# Altium footprint library TeknoFest.PcbLib: 43 footprints (part 1 of 3)
Each footprint in its own frame and in the unit in brackets; x right, y up, seen from the top. Pads: shape width x height; smd on the part's side, far side on the other; paste and mask are expansions set on the pad; w line width, h text height; cw(c..) or ccw(c..) is an arc to the next point about the centre after c.
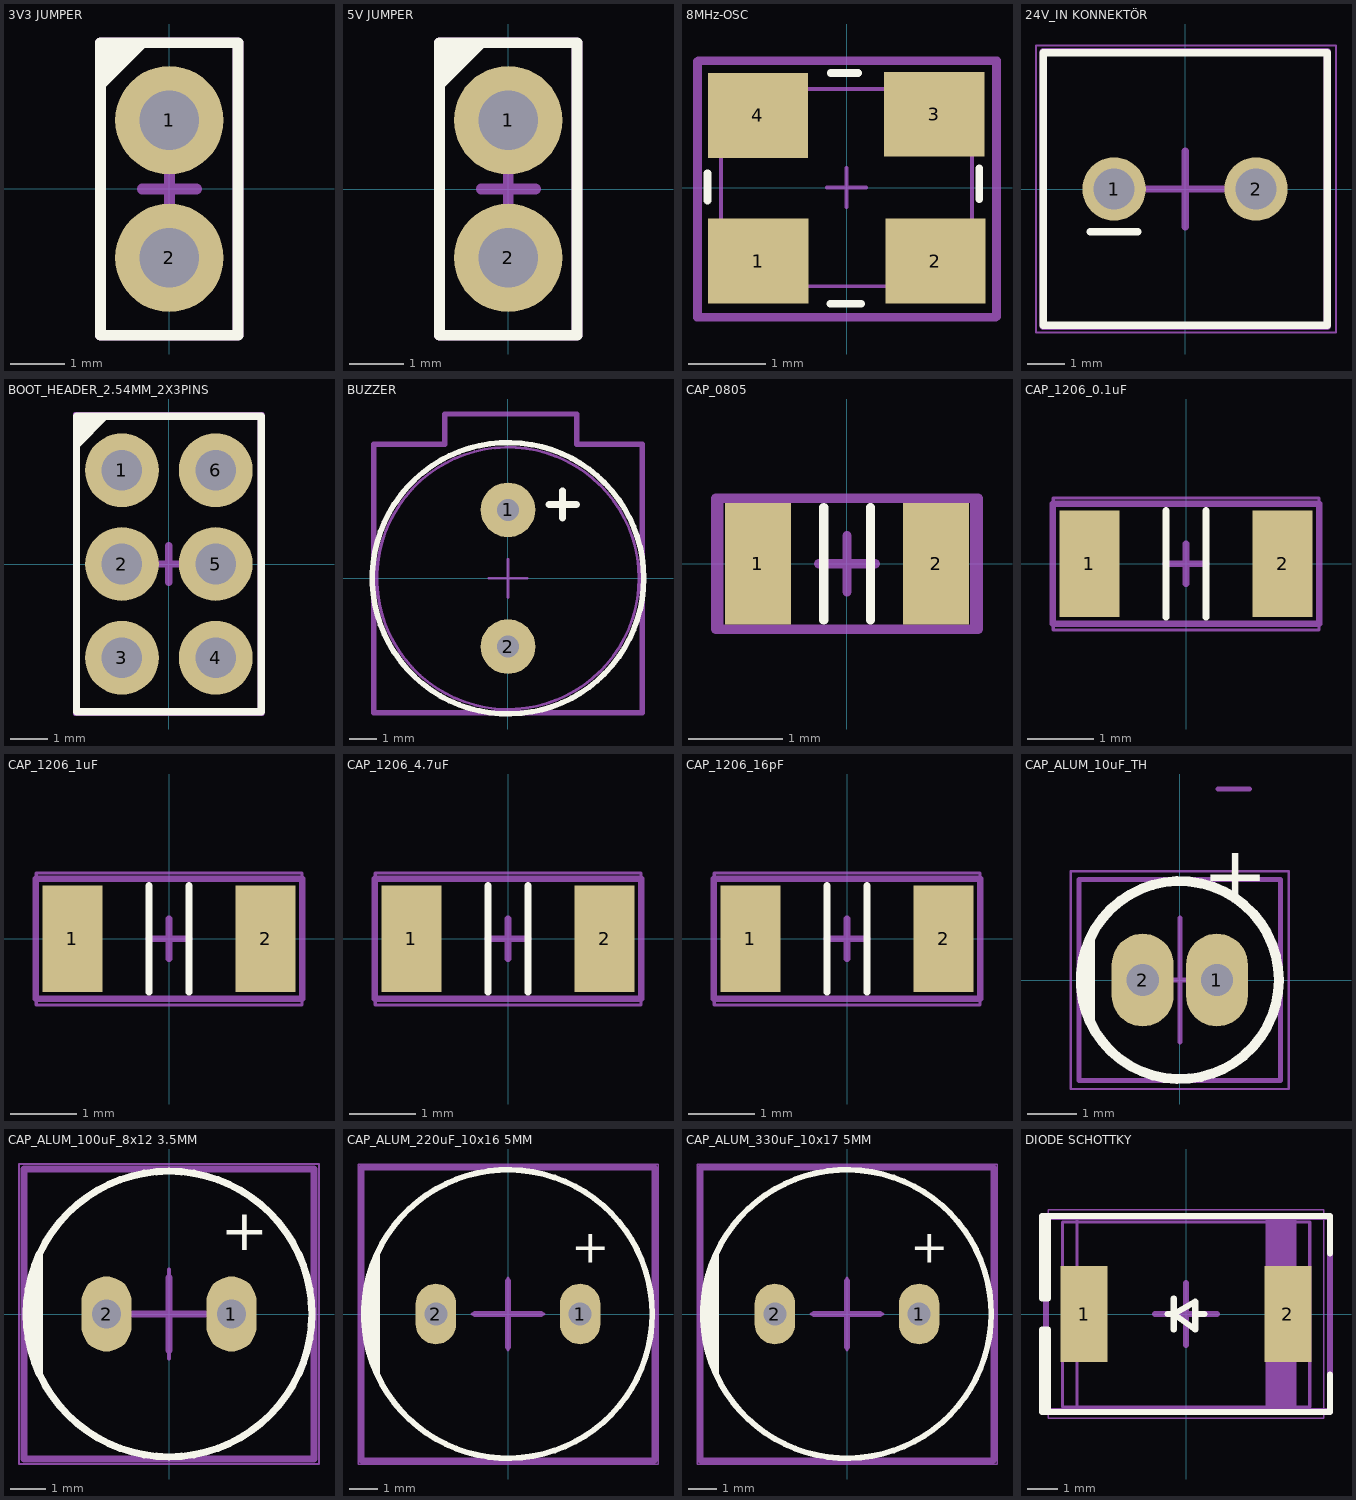
[diagram p0: the footprints below, top view; thin cyan lines are the x and y axes]

## 3V3 JUMPER [mm]
pads (2):
  round 2 hole 1.1: 1(0,1.27) 2(0,-1.27)
Top Overlay:
  region: -1.23,2.73 -1.23,1.83 -0.33,2.73
  lines w0.2: -1.27,-2.7 -1.27,2.7 1.27,2.7 1.27,-2.7 -1.27,-2.7
Top 3D Body:
  lines w0.05: -1.278,-2.769 -1.278,2.769 1.278,2.769 1.278,-2.769 -1.278,-2.769
Top Component Center:
  lines w0.2: -0.5,0 0.5,0 ; 0,-0.5 0,0.5 ; -1.27,-2.7 1.27,-2.7 1.27,2.7 -1.27,2.7 -1.27,-2.7
Top  Designator:
  lines w0.1: -1.29,-2.723 -1.29,2.709 1.27,2.709 1.27,-2.723 -1.29,-2.723
  text ".Designator" at -0.485,-0.025 h1
3D body "M20-7820242.step": height 8.5, standoff -3, extent -1.25,-2.74 1.25,2.74

## 5V JUMPER [mm]
pads (2):
  round 2 hole 1.1: 1(0,1.27) 2(0,-1.27)
Top Overlay:
  region: -1.23,2.73 -1.23,1.83 -0.33,2.73
  lines w0.2: -1.27,-2.7 -1.27,2.7 1.27,2.7 1.27,-2.7 -1.27,-2.7
Top 3D Body:
  lines w0.05: -1.28,-2.768 1.28,-2.768 1.28,2.77 -1.28,2.77 -1.28,-2.768
Top Component Center:
  lines w0.2: -0.5,0 0.5,0 ; 0,-0.5 0,0.5 ; -1.27,-2.7 1.27,-2.7 1.27,2.7 -1.27,2.7 -1.27,-2.7
Top  Designator:
  lines w0.1: -1.29,-2.723 1.27,-2.723 1.27,2.709 -1.29,2.709 -1.29,-2.723
  text ".Designator" at -0.485,-0.025 h1
3D body "M20-7820242.step": height 8.5, standoff -3, extent -1.25,-2.74 1.25,2.74

## 8MHz-OSC [mm]
pads (4):
  rect 1.3x1.1 smd mask+0.05: 1(-1.148,-0.954) 2(1.152,-0.954) 3(1.137,0.954) 4(-1.152,0.937)
Top Overlay:
  circle w0.254: c-1.548,-1.232 r0.1
  lines w0.1: -1.805,-0.166 -1.805,0.188 ; -0.212,-1.509 0.188,-1.509 ; -0.207,1.487 0.147,1.487 ; 1.723,-0.147 1.723,0.253
Top 3D Body:
  lines w0.05: -1.63,-1.28 -1.63,1.28 1.629,1.28 1.629,-1.28 -1.63,-1.28
Top Component Center:
  lines w0.05: -0.254,0 0.254,0 ; 0,-0.254 0,0.254
  lines w0.1: -1.943,-1.684 -1.943,1.639 1.937,1.639 1.937,-1.684 -1.943,-1.684
Top  Designator:
  lines w0.1: -1.928,-1.675 1.951,-1.675 1.951,1.649 -1.928,1.649 -1.928,-1.675
  text ".Designator" at -0.612,-0.218 h0.8
3D body "ASE3.STEP": height 1.22, standoff -0.03, extent -1.6,-1.25 1.6,1.25

## 24V_IN KONNEKTÖR [mm]
pads (2):
  round 1.7 hole 1.1: 1(-1.905,0) 2(1.905,0)
Top Overlay:
  lines w0.2: -2.54,-1.143 -1.27,-1.143 ; -3.81,-3.65 3.81,-3.65 3.81,3.65 -3.81,3.65 -3.81,-3.65
Top 3D Body:
  lines w0.05: -3.838,-3.677 3.835,-3.677 3.835,3.678 -3.838,3.678 -3.838,-3.677
Top Component Center:
  lines w0.2: -1.016,0 0,0 ; 0,-1.016 0,0 ; 0,1.016 0,0 ; 1.016,0 0,0 ; -3.81,-3.683 3.81,-3.683 3.81,3.683 -3.81,3.683 -3.81,-3.683
Top  Designator:
  lines w0.1: -3.81,-3.683 3.81,-3.683 3.81,3.683 -3.81,3.683 -3.81,-3.683
  text ".Designator" at -0.889,0 h1.52
Mechanical 15:
  lines w0.05: -4,-3.85 4.05,-3.85 4.05,3.85 -4,3.85 -4,-3.85
3D body "Phoenix Contact - 1727010 v11.step": height 8.5, standoff -3.5, extent -3.81,-3.65 3.81,3.65

## BOOT_HEADER_2.54MM_2X3PINS [mm] "2.54mm DIL PC TAIL PIN HEADER ASSEMBLY"
height 5
pads (6):
  round 2 hole 1.1: 1(-1.27,2.54) 2(-1.27,0) 3(-1.27,-2.54) 4(1.27,-2.54) 5(1.27,0) 6(1.27,2.54)
Top Overlay:
  region: -2.5,4 -2.5,3.1 -1.6,4
  lines w0.2: -2.5,-4 -2.5,4 2.5,4 2.5,-4 -2.5,-4
Top 3D Body:
  lines w0.05: -2.54,-4.037 -2.54,4.039 -2.412,4.039 2.55,4.039 2.55,-4.037 -2.54,-4.037
Top Component Center:
  lines w0.2: -0.5,0 0.5,0 ; 0,-0.5 0,0.5 ; -2.5,-4 -2.5,4 2.5,4 2.5,-4 -2.5,-4
Top  Designator:
  lines w0.1: -2.54,-4.064 -2.54,4.064 2.54,4.064 2.54,-4.064 -2.54,-4.064
  text ".Designator" at -1.143,-0.254 h1.52
3D body "M20-7830342.step": height 8.5, standoff -3, extent -2.52,-4.01 2.52,4.01

## BUZZER [mm]
pads (2):
  round 2 hole 0.8 mask+0.05: 1(0,2.5) 2(0,-2.5)
Top Overlay:
  circle w0.2: c0,0 r4.966
  lines w0.25: 1.5,2.7 2.5,2.7 ; 1.991,2.2 1.991,3.2
Top 3D Body:
  lines w0.2: -4.914,-4.915 -4.914,4.908 -2.313,4.908 -2.313,6.009 2.507,6.009 2.507,4.906 4.905,4.906 4.905,-4.915 -4.914,-4.915
Top Component Center:
  circle w0.1: c0,0 r4.793
  lines w0.1: -0.7,0 0.7,0 ; 0,-0.7 0,0.7
Top  Designator:
  circle w0.1: c0,0 r4.793
  text ".Designator" at -1.546,-0.438 h1.52
3D body: height 5.2, standoff 5.15, extent -2.2,1.3 2.4,5.9
3D body: height 5.2, standoff 5.15, extent -4.363,-4.291 4.237,4.309
3D body: height 5.1, standoff 0.1, extent -4.8,-4.8 4.8,4.8

## CAP_0805 [mm]
pads (2):
  rect 0.7x1.3 smd mask+0.05: 1(-0.95,0) 2(0.95,0)
Top Overlay:
  lines w0.1: -0.25,-0.6 -0.25,0.6 ; 0.25,-0.6 0.25,0.6
Top 3D Body:
  lines w0.05: -1.34,-0.718 -1.34,0.711 1.338,0.711 1.338,-0.718 -1.34,-0.718
Top Component Center:
  lines w0.1: -0.3,0 0.3,0 ; 0,-0.3 0,0.3 ; -1.4,-0.7 -1.4,0.7 1.4,0.7 1.4,-0.7 -1.4,-0.7
Top  Designator:
  lines w0.1: -1.4,-0.7 -1.4,0.7 1.4,0.7 1.4,-0.7 -1.4,-0.7
  text "'.Designator'" at -1.25,-0.317 h0.7
3D body "CAPC0805.STEP": height 0.9, standoff 0, extent -1.301,-0.678 1.301,0.678

## CAP_1206_0.1uF [mm]
pads (2):
  rect 0.9x1.6 smd mask+0.05: 1(-1.45,0) 2(1.45,0)
Top Overlay:
  lines w0.1: -0.3,-0.8 -0.3,0.8 ; 0.3,-0.8 0.3,0.8
Top 3D Body:
  lines w0.05: -1.991,-0.994 -1.991,0.987 1.996,0.987 1.996,-0.994 -1.991,-0.994
Top Component Center:
  lines w0.1: -0.3,0 0.3,0 ; 0,-0.3 0,0.3 ; -2,-0.9 2,-0.9 2,0.9 -2,0.9 -2,-0.9
Top  Designator:
  lines w0.1: -2,-0.9 2,-0.9 2,0.9 -2,0.9 -2,-0.9
  text "'.Designator'" at -1.25,-0.317 h0.7
3D body "CAPC1206.STEP": height 1.3, standoff -0.01, extent -1.975,-0.976 1.975,0.976

## CAP_1206_1uF [mm]
pads (2):
  rect 0.9x1.6 smd mask+0.05: 1(-1.45,0) 2(1.45,0)
Top Overlay:
  lines w0.1: -0.3,-0.8 -0.3,0.8 ; 0.3,-0.8 0.3,0.8
Top 3D Body:
  lines w0.05: -1.991,-0.994 -1.991,0.987 1.996,0.987 1.996,-0.994 -1.991,-0.994
Top Component Center:
  lines w0.1: -0.3,0 0.3,0 ; 0,-0.3 0,0.3 ; -2,-0.9 2,-0.9 2,0.9 -2,0.9 -2,-0.9
Top  Designator:
  lines w0.1: -2,-0.9 2,-0.9 2,0.9 -2,0.9 -2,-0.9
  text "'.Designator'" at -1.25,-0.317 h0.7
3D body "CAPC1206.STEP": height 1.3, standoff -0.01, extent -1.975,-0.976 1.975,0.976

## CAP_1206_4.7uF [mm]
pads (2):
  rect 0.9x1.6 smd mask+0.05: 1(-1.45,0) 2(1.45,0)
Top Overlay:
  lines w0.1: -0.3,-0.8 -0.3,0.8 ; 0.3,-0.8 0.3,0.8
Top 3D Body:
  lines w0.05: -1.991,-0.994 -1.991,0.987 1.996,0.987 1.996,-0.994 -1.991,-0.994
Top Component Center:
  lines w0.1: -0.3,0 0.3,0 ; 0,-0.3 0,0.3 ; -2,-0.9 2,-0.9 2,0.9 -2,0.9 -2,-0.9
Top  Designator:
  lines w0.1: -2,-0.9 2,-0.9 2,0.9 -2,0.9 -2,-0.9
  text "'.Designator'" at -1.25,-0.317 h0.7
3D body "CAPC1206.STEP": height 1.3, standoff -0.01, extent -1.975,-0.976 1.975,0.976

## CAP_1206_16pF [mm]
pads (2):
  rect 0.9x1.6 smd mask+0.05: 1(-1.45,0) 2(1.45,0)
Top Overlay:
  lines w0.1: -0.3,-0.8 -0.3,0.8 ; 0.3,-0.8 0.3,0.8
Top 3D Body:
  lines w0.05: -1.991,-0.994 1.996,-0.994 1.996,0.987 -1.991,0.987 -1.991,-0.994
Top Component Center:
  lines w0.1: -0.3,0 0.3,0 ; 0,-0.3 0,0.3 ; -2,-0.9 -2,0.9 2,0.9 2,-0.9 -2,-0.9
Top  Designator:
  lines w0.1: -2,-0.9 -2,0.9 2,0.9 2,-0.9 -2,-0.9
  text "'.Designator'" at -1.25,-0.317 h0.7
3D body "CAPC1206.STEP": height 1.3, standoff -0.01, extent -1.975,-0.976 1.975,0.976

## CAP_ALUM_10uF_TH [mm]
pads (2):
  oval 1.25x1.875 hole 0.65: 1(0.75,0) 2(-0.75,0)
Top Overlay:
  circle w0.2: c0,0 r2
  region: -1.813,-0.845 -1.905,-0.647 -2,-0.219 -2,0.219 -1.905,0.647 -1.813,0.845
  lines w0.2: -1.813,-0.845 cw(c0,0) -1.813,0.845 -1.813,-0.845
  text "+" at 0.45,1.175 h2
Top 3D Body:
  lines w0.05: -2.032,-2.032 2.032,-2.032 2.032,2.032 -2.032,2.032 -2.032,-2.032
Top Component Center:
  lines w0.1: -0.635,0 0,0 ; 0,-0.635 0,0 ; 0,0.635 0,0 ; 0.635,0 0,0 ; 0.771,3.86 1.406,3.86 ; -2.032,-2.032 -2.032,2.032 2.032,2.032 2.032,-2.032 -2.032,-2.032
Top  Designator:
  lines w0.1: -2.032,-2.032 -2.032,2.032 2.032,2.032 2.032,-2.032 -2.032,-2.032
  text ".Designator" at -1.27,-0.381 h1.52
Mechanical 13:
  circle w0.1: c0,0 r2
  circle w0.1: c0,0 r2
  lines w0.1: -1.813,-0.845 -1.813,0.845 -1.813,-0.845
Mechanical 15:
  lines w0.05: -2.2,-2.2 2.2,-2.2 ; -2.2,-2.2 -2.2,2.2 ; -2.2,-2.2 2.2,-2.2 ; -2.2,-2.2 -2.2,2.2 ; -2.2,2.2 2.2,2.2 ; -2.2,2.2 2.2,2.2 ; 2.2,-2.2 2.2,2.2 ; 2.2,-2.2 2.2,2.2
  lines w0.1: 0,0 1.25,0 0,0 ; 0,0 0,-1.25 0,0 ; 0,0 -1.25,0 0,0 ; 0,0 0,1.25 0,0
3D body "Cap TH D4.00mm H7.00mm L1.50mm.step": height 7, standoff -2.5, extent -2.009,-1.997 1.991,1.997

## CAP_ALUM_100uF_8x12 3.5MM [mm] "PKRH-063V101MF120-T/A3.5 - CAP.EL.100UF 63V 8x12 3.5MM 105C 5000h TB"
pads (2):
  oval 1.4x2.1 hole 0.8: 1(1.75,0) 2(-1.75,0)
Top Overlay:
  circle w0.2: c0,0 r4
  region: -3.625,-1.69 -3.718,-1.493 -3.858,-1.079 -3.952,-0.653 -4,-0.218 -4,0.218 -3.952,0.653 -3.858,1.079 -3.718,1.493 -3.625,1.69
  lines w0.2: -3.625,-1.69 cw(c0,0) -3.625,1.69 -3.625,-1.69
  text "+" at 1.45,1.4 h2
Top 3D Body:
  lines w0.1: -4.07,-4.064 -4.07,4.069 4.064,4.069 4.064,-4.064 -4.07,-4.064
Top Component Center:
  lines w0.2: -1.016,0 0,0 ; 0,-1.016 0,0 ; 0,1.016 0,0 ; 1.016,0 0,0 ; -4.064,-4.064 -4.064,4.064 4.064,4.064 4.064,-4.064 -4.064,-4.064
Top  Designator:
  lines w0.1: -4.064,-4.064 4.064,-4.064 4.064,4.064 -4.064,4.064 -4.064,-4.064
  text ".Designator" at -0.381,0.127 h1.52
Mechanical 13:
  circle w0.1: c0,0 r4
  lines w0.1: -3.625,-1.69 -3.625,1.69
Mechanical 15:
  lines w0.05: -4.2,-4.2 -4.2,4.2 4.2,4.2 4.2,-4.2 -4.2,-4.2
  lines w0.1: -1.25,0 0,0 ; 0,-1.25 0,0 ; 0,1.25 0,0 ; 1.25,0 0,0
3D body "CAP TH ALPOLY D8.00mm S3.50mm H12.00mm.step": height 12, standoff -2.5, extent -4.008,-4 4,4

## CAP_ALUM_220uF_10x16 5MM [mm]
pads (2):
  oval 1.4x2.1 hole 0.8: 1(2.5,0) 2(-2.5,0)
Top Overlay:
  circle w0.2: c0,0 r5
  region: -4.532,-2.113 -4.647,-1.866 -4.822,-1.349 -4.941,-0.816 -5,-0.273 -5,0.273 -4.941,0.816 -4.822,1.349 -4.647,1.866 -4.532,2.113
  lines w0.2: -4.532,-2.113 cw(c0,0) -4.532,2.113 -4.532,-2.113
  text "+" at 2.2,1.4 h2
Top 3D Body:
  lines w0.1: -5.08,-5.055 5.064,-5.055 5.064,5.068 -5.08,5.068 -5.08,-5.055
Top Component Center:
  lines w0.2: -1.143,0 0,0 ; 0,-1.143 0,0 ; 0,1.143 0,0 ; 1.143,0 0,0 ; -5.08,-5.08 -5.08,5.08 5.08,5.08 5.08,-5.08 -5.08,-5.08
Top  Designator:
  lines w0.1: -5.08,-5.08 5.08,-5.08 5.08,5.08 -5.08,5.08 -5.08,-5.08
  text ".Designator" at -0.381,0.127 h1.52
Mechanical 13:
  circle w0.1: c0,0 r5
  lines w0.1: -4.532,-2.113 -4.532,2.113
Mechanical 15:
  lines w0.05: -5.2,-5.2 5.2,-5.2 5.2,5.2 -5.2,5.2 -5.2,-5.2
  lines w0.1: -1.25,0 0,0 ; 0,-1.25 0,0 ; 0,1.25 0,0 ; 1.25,0 0,0
3D body "Cap TH D10.00mm H16.00mm L5.00mm.step": height 16, standoff -2.5, extent -5.007,-4.998 5,4.998

## CAP_ALUM_330uF_10x17 5MM [mm]
pads (2):
  oval 1.4x2.1 hole 0.8: 1(2.5,0) 2(-2.5,0)
Top Overlay:
  circle w0.2: c0,0 r5
  region: -4.532,-2.113 -4.647,-1.866 -4.822,-1.349 -4.941,-0.816 -5,-0.273 -5,0.273 -4.941,0.816 -4.822,1.349 -4.647,1.866 -4.532,2.113
  lines w0.2: -4.532,-2.113 cw(c0,0) -4.532,2.113 -4.532,-2.113
  text "+" at 2.2,1.4 h2
Top 3D Body:
  lines w0.1: -5.066,-5.065 -5.066,5.053 5.055,5.053 5.055,-5.065 -5.066,-5.065
Top Component Center:
  lines w0.2: -1.143,0 0,0 ; 0,-1.143 0,0 ; 0,1.143 0,0 ; 1.143,0 0,0 ; -5.08,-5.08 5.08,-5.08 5.08,5.08 -5.08,5.08 -5.08,-5.08
Top  Designator:
  lines w0.1: -5.08,-5.08 5.08,-5.08 5.08,5.08 -5.08,5.08 -5.08,-5.08
  text ".Designator" at -1.651,-0.508 h1.52
Mechanical 13:
  circle w0.1: c0,0 r5
  lines w0.1: -4.532,-2.113 -4.532,2.113
Mechanical 15:
  lines w0.05: -5.2,-5.2 -5.2,5.2 5.2,5.2 5.2,-5.2 -5.2,-5.2
  lines w0.1: -1.25,0 0,0 ; 0,-1.25 0,0 ; 0,1.25 0,0 ; 1.25,0 0,0
3D body "Cap TH D10.00mm H17.00mm L5.00mm.step": height 17, standoff -2.5, extent -5.007,-4.998 5,4.998

## DIODE SCHOTTKY [mm]
pads (2):
  rect 1.54x3.14 smd: 1(-3.325,0) 2(3.325,0)
Top Overlay:
  lines w0.2: -4.5,-3.2 -4.5,-0.5 -4.7,-0.5 -4.7,-3.2 4.7,-3.2 4.7,-1.975 ; -4.5,3.2 -4.5,0.5 -4.7,0.5 -4.7,3.2 4.7,3.2 4.7,1.975 ; -0.6,0 -0.4,0 ; -0.4,-0.5 -0.4,0.5 ; 0.3,0 0.6,0 ; -0.4,0 0.3,0.4 0.3,-0.5 -0.4,0
Top 3D Body:
  lines w0.1: -4.029,-3.029 4.039,-3.029 4.039,3.005 -4.029,3.005 -4.029,-3.029
Top Component Center:
  lines w0.2: -1.016,0 0,0 ; 0,-1.016 0,0 ; 0,1.016 0,0 ; 1.016,0 0,0 ; -4.572,-3.175 4.699,-3.175 4.699,3.175 -4.572,3.175 -4.572,-3.175
Top  Designator:
  lines w0.1: -4.572,-3.175 -4.572,3.175 4.699,3.175 4.699,-3.175 -4.572,-3.175
  text ".Designator" at -1.143,-0.127 h1.52
Mechanical 13:
  rectangle: 2.599,-3.11 3.555,3.11
  lines w0.1: -3.555,-3.11 -3.555,3.11 3.555,3.11 3.555,-3.11 -3.555,-3.11
Mechanical 15:
  lines w0.05: -4.5,-3.4 -4.5,3.4 4.5,3.4 4.5,-3.4 -4.5,-3.4
  lines w0.1: -0.5,0 0.5,0 ; 0,-0.5 0,0.5
3D body "DO-214AB SMC.step": height 2.3, standoff 0, extent -3.975,-2.95 3.975,2.95